# Altium footprint library Diodes.PcbLib: 1 footprints
Each footprint in its own frame and in the unit in brackets; x right, y up, seen from the top. Pads: shape width x height; smd on the part's side, far side on the other; paste and mask are expansions set on the pad; w line width, h text height; cw(c..) or ccw(c..) is an arc to the next point about the centre after c.
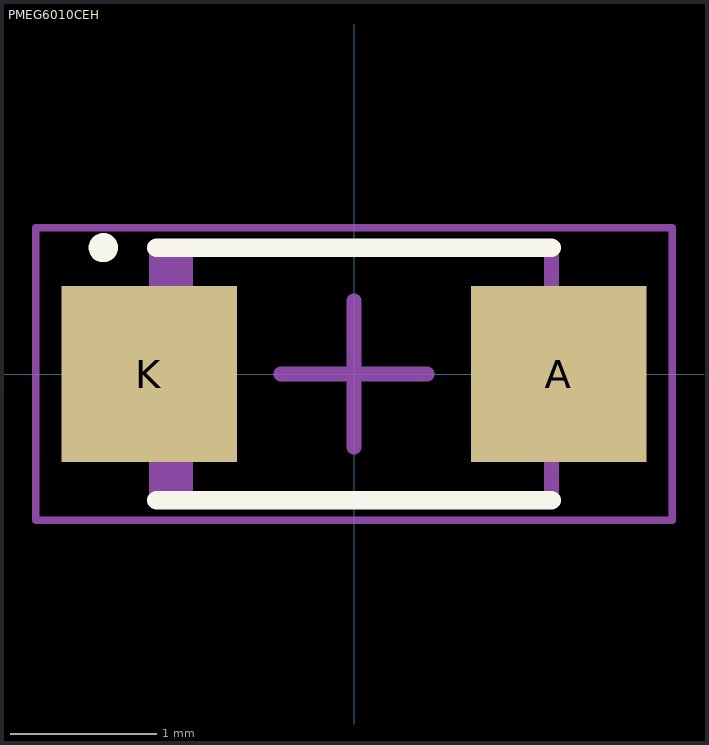
[diagram p0: the footprint, top view; thin cyan lines are the x and y axes]

## PMEG6010CEH [mm] "60 V, 1 A very low VF Schottky barrier rectifier"
height 1.2
pads (2):
  rect 1.2x1.2 smd mask+0.05: A(1.4,0) K(-1.4,0)
Top Overlay:
  circle w0.1: c-1.714,0.864 r0.05
  lines w0.127: -1.35,-0.863 1.35,-0.863 ; -1.35,0.864 1.35,0.864
Top Assembly:
  rectangle: -1.35,-0.9 -1.1,0.85
  lines w0.1: -1.35,-0.85 -1.35,0.85 1.35,0.85 1.35,-0.85 -1.35,-0.85
  text "'.Designator'" at -1.209,-0.113 h0.5
Top Courtyard:
  lines w0.05: -2.175,-1 -2.175,1 2.175,1 2.175,-1 -2.175,-1
  lines w0.1: -0.5,0 0.5,0 ; 0,-0.5 0,0.5
3D body "SODFL350X120-2N.step": height 1.2, standoff 0, extent -1.75,-0.85 1.75,0.85